# Altium schematic symbol library AK2PAF1-156.2500.SchLib: 1 symbol
Pins are listed as number, name and electrical type; pins without a type are passive.

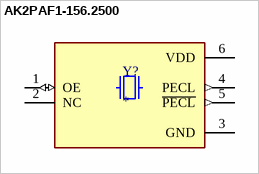
[diagram p0: symbol AK2PAF1-156.2500]

## AK2PAF1-156.2500
designator Y?
XTAL OSC XO 156.25MHZ 3.3V LVPEC.   MANUFACTURER: ABRACON; MP: AK2PAF1-156.2500; MF: {'manufacturer': u'Abracon LLC'}; Package: None; Availability: Unavailable; Price: None; Value: *
footprint XTAL_AK2PAF1-156.2500
pins: 1 OE (io), 2 NC, 3 GND (power), 4 PECL (out), 5 ~{PECL} (out), 6 VDD (power)